# EAGLE library part 7-WAY (library pimoroni-headers)
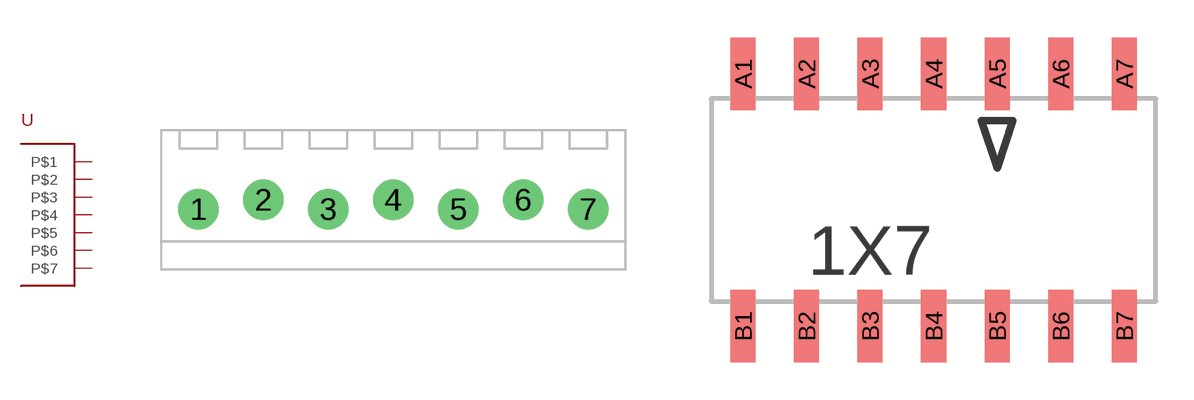
[diagram p4: symbol with the pads of 1X7-3.5MM-SCREWTERMINAL; footprints 1X7-3.5MM-SCREWTERMINAL, 1X7_FEMALE_SMT_RIGHT_ANGLE]

Designator prefix -

## 7-WAY  [1X7-3.5MM-SCREWTERMINAL]
1  P$1
2  P$2
3  P$3
4  P$4
5  P$5
6  P$6
7  P$7

## 7-WAYFEMALE_RA_SMD  [1X7_FEMALE_SMT_RIGHT_ANGLE]
A1  P$1
A2  P$2
A3  P$3
A4  P$4
A5  P$5
A6  P$6
A7  P$7
B1  P$1
B2  P$2
B3  P$3
B4  P$4
B5  P$5
B6  P$6
B7  P$7

## Footprint 1X7-3.5MM-SCREWTERMINAL (pad centres in mm)
drill 1.3 pad 2.184: 1 -10.5,-0.25; 2 -7,0.25; 3 -3.5,-0.25; 4 0,0.25; 5 3.5,-0.25; 6 7,0.25; 7 10.5,-0.25

## Footprint 1X7_FEMALE_SMT_RIGHT_ANGLE (pad centres in mm)
smd 1 x 2.9: A1 -7.62,5.05; A2 -5.08,5.05; A3 -2.54,5.05; A4 0,5.05; A5 2.54,5.05; A6 5.08,5.05; A7 7.62,5.05; B1 -7.62,-5.05; B2 -5.08,-5.05; B3 -2.54,-5.05; B4 0,-5.05; B5 2.54,-5.05; B6 5.08,-5.05; B7 7.62,-5.05